# Altium schematic symbol library IC. Logic.SchLib: 14 symbols
Pins are listed as number, name and electrical type; pins without a type are passive.

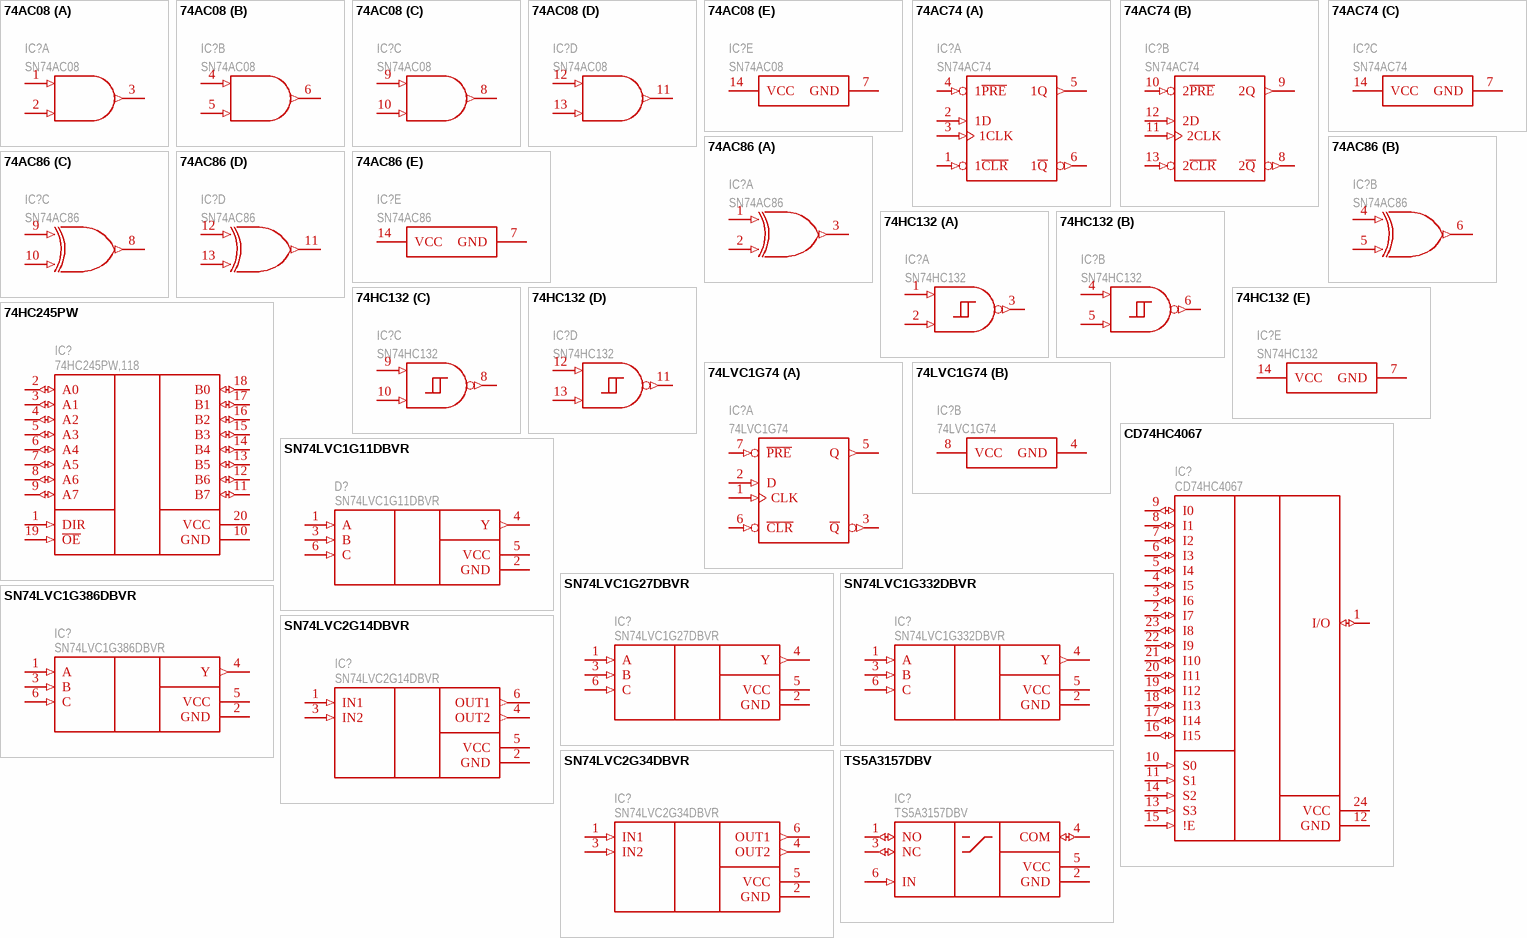
[diagram p0: symbols 74AC08 to TS5A3157DBV]

## 74AC08
designator IC?  PartNumber: SN74AC08
Quadruple 2-Input Positive-AND Gates; Manufacturer: Texas Instruments; ICC @ Nom Voltage(Max)(mA): 0.02; Rating: Catalog; Input Type: CMOS; Output Drive (IOL/IOH)(Max)(mA): -24/24; Technology Family: AC; Schmitt Trigger: No; Bits(#): 4; F @ Nom Voltage(Max)(Mhz): 100; tpd @ Nom Voltage(Max)(ns): 10,8.5; Supply: 2..6V; DatasheetVersion: SCAS536D; PackageReference: D0014A; Temperature: -40 to 85; Output Type: CMOS; ValueManufacturerPartNumber: =ComponentType+', '+Supply+', '+Temperature+', '+Package; ComponentType: IC logic buffer
footprint 14-SOIC (pitch 1.27 mm)
part A pins: 1 1A (in), 2 1B (in), 3 1Y (out)
part B pins: 4 2A (in), 5 2B (in), 6 2Y (out)
part C pins: 8 3Y (out), 9 3A (in), 10 3B (in)
part D pins: 11 4Y (out), 12 4A (in), 13 4B (in)
part E pins: 7 GND (power), 14 VCC (power)

## 74AC74
designator IC?  PartNumber: SN74AC74
Dual Positive-Edge-Triggered D-Type Flip-Flops With Clear and Preset; Manufacturer: Texas Instruments; VCC(Min)(V): 2; Rating: Catalog; VCC(Max)(V): 6; F @ Nom Voltage(Max)(Mhz): 100; Schmitt Trigger: No; Input Type: CMOS; Output: 3S; Technology Family: AC; Output Logic: Inverted,Non-inverted; tpd @ Nom Voltage(Max)(ns): 13.5,10.5; Output Drive (IOL/IOH)(Max)(mA): 24/-24; ICC @ Nom Voltage(Max)(mA): 0.02; Voltage(Nom)(V): 3.3,5; PackageReference: D0014A; Operating Temperature Range(C): -40 to 85; 3-State Output: No; Output Type: CMOS; DatasheetVersion: SCAS521F; Bits(#): 2; Code_JEDEC: MS-012
footprint 14-SOIC (pitch 1.27 mm)
part A pins: 1 1~{CLR} (in), 2 1D (in), 3 1CLK (in), 4 1~{PRE} (in), 5 1Q (out), 6 1~{Q} (out)
part B pins: 8 2~{Q} (out), 9 2Q (out), 10 2~{PRE} (in), 11 2CLK (in), 12 2D (in), 13 2~{CLR} (in)
part C pins: 7 GND (power), 14 VCC (power)

## 74AC86
designator IC?  PartNumber: SN74AC86
Quadruple 2-Input Exclusive-OR Gates; Manufacturer: Texas Instruments; Input Type: CMOS; ICC @ Nom Voltage(Max)(mA): 0.02; VCC(Max)(V): 5.5; tpd @ Nom Voltage(Max)(ns): 12.5,9; Rating: Catalog; Schmitt Trigger: No; VCC(Min)(V): 2; F @ Nom Voltage(Max)(Mhz): 100; Bits(#): 4; Voltage(Nom)(V): 3.3,5; Technology Family: AC; Output Drive (IOL/IOH)(Max)(mA): 24/-24; Operating Temperature Range(C): -40 to 85; Output Type: CMOS; DatasheetVersion: SCAS533C; PackageReference: D0014A
footprint 14-soic (pitch 1.27 mm)
part A pins: 1 1A (in), 2 1B (in), 3 1Y (out)
part B pins: 4 2A (in), 5 2B (in), 6 2Y (out)
part C pins: 8 3Y (out), 9 3A (in), 10 3B (in)
part D pins: 11 4Y (out), 12 4A (in), 13 4B (in)
part E pins: 7 GND (power), 14 VCC (power)

## 74HC132
designator IC?  PartNumber: SN74HC132
Quadruple Positive-NAND Gates With Schmitt-Trigger Inputs; Manufacturer: Texas Instruments; Bits(#): 4; VCC(Min)(V): 2; F @ Nom Voltage(Max)(Mhz): 70; Input Type: CMOS; ICC @ Nom Voltage(Max)(mA): 0.02; Rating: Catalog; Schmitt Trigger: Yes; Technology Family: HC; Output Drive (IOL/IOH)(Max)(mA): 5.2/-5.2; VCC(Max)(V): 6; tpd @ Nom Voltage(Max)(ns): 31; Voltage(Nom)(V): 5; Operating Temperature Range(C): -40 to 85; PackageReference: D0014A; Code_JEDEC: MS-012; DatasheetVersion: SCLS034F; Output Type: CMOS
footprint 14-soic (pitch 1.27 mm)
part A pins: 1 1A (in) "Gate 1 input", 2 1B (in) "Gate 1 input", 3 1Y (out) "Gate 1 output"
part B pins: 4 2A (in) "Gate 2 input", 5 2B (in) "Gate 2 input", 6 2Y (out) "Gate 2 output"
part C pins: 8 3Y (out) "Gate 3 output", 9 3A (in) "Gate 3 input", 10 3B (in) "Gate 3 input"
part D pins: 11 4Y (out) "Gate 4 output", 12 4A (in) "Gate 4 input", 13 4B (in) "Gate 4 input"
part E pins: 7 GND (power) "Ground Pin", 14 VCC (power) "Power Pin"

## 74HC245PW
designator IC?  PartNumber: 74HC245PW,118
Buffer; Manufacturer: Nexperia; ValueManufacturerPartNumber: IC logic buffer, 2...6V, -40...+125°C, 20-TSSOP; Supply: 2...6V; HelpURL: https://www.digikey.com/product-detail/en/nexperia-usa-inc/74HC245PW118/1727-4296-1-ND/2209913; Package: 20-TSSOP; ComponentType: IC logic buffer; Temperature: -40...+125°C
footprint 20-TSSOP (pitch 0.65 mm)
pins: 1 DIR (in), 2 A0 (io), 3 A1 (io), 4 A2 (io), 5 A3 (io), 6 A4 (io), 7 A5 (io), 8 A6 (io), 9 A7 (io), 10 GND, 11 B7 (io), 12 B6 (io), 13 B5 (io), 14 B4 (io), 15 B3 (io), 16 B2 (io), 17 B1 (io), 18 B0 (io), 19 ~{OE} (in), 20 VCC

## 74LVC1G74
designator IC?  PartNumber: 74LVC1G74
Positive-Edge-Triggered D-Type Flip-Flops With Clear and Preset
footprint 8-SSOP (3x3 mm, pitch 0.65 mm)
part A pins: 1 CLK (in), 2 D (in), 3 ~{Q} (out), 5 Q (out), 6 ~{CLR} (in), 7 ~{PRE} (in)
part B pins: 4 GND (power), 8 VCC (power)

## CD74HC4067
designator IC?  PartNumber: CD74HC4067
MUX; Manufacturer: Texas Instruments; ValueManufacturerPartNumber: IC logic inverter, 1.65...5.5V, -40...+125°C, SOT23-6; Supply: 1.65...5.5V; HelpURL: https://www.digikey.com/product-detail/en/texas-instruments/SN74LVC2G14DBVR/296-13010-1-ND/479730; Package: SOT23-6; ComponentType: IC logic inverter; Temperature: -40...+125°C
footprint 24-soic (SOIC, 24-Leads, Body 15,40x7,50mm, Pitch 1,27mm, IPC Medium Density)
pins: 1 I/O (io), 2 I7 (io), 3 I6 (io), 4 I5 (io), 5 I4 (io), 6 I3 (io), 7 I2 (io), 8 I1 (io), 9 I0 (io), 10 S0 (in), 11 S1 (in), 12 GND (power), 13 S3 (in), 14 S2 (in), 15 !E (in), 16 I15 (io), 17 I14 (io), 18 I13 (io), 19 I12 (io), 20 I11 (io), 21 I10 (io), 22 I9 (io), 23 I8 (io), 24 VCC (power)

## SN74LVC1G11DBVR
designator D?  PartNumber: SN74LVC1G11DBVR
AND; Manufacturer: Texas Instruments; ValueManufacturerPartNumber: IC logic AND, 1.65...5.5V, -40...+125°C, SOT23-6; Supply: 1.65...5.5V; HelpURL: https://www.digikey.com/product-detail/en/texas-instruments/SN74LVC1G11DBVR/296-16810-1-ND/637183; Package: SOT23-6; ComponentType: IC logic AND; Temperature: -40...+125°C
footprint SOT23-6 (pitch 0.95 mm)
pins: 1 A (in), 2 GND (power), 3 B (in), 4 Y (out), 5 VCC (power), 6 C (in)

## SN74LVC1G27DBVR
designator IC?  PartNumber: SN74LVC1G27DBVR
NOR; Manufacturer: Texas Instruments; ValueManufacturerPartNumber: IC logic NOR, 1.65...5.5V, -40...+125°C, SOT23-6; Supply: 1.65...5.5V; HelpURL: https://www.digikey.com/product-detail/en/texas-instruments/SN74LVC1G27DBVR/296-17119-2-ND/664036; Package: SOT23-6; ComponentType: IC logic NOR; Temperature: -40...+125°C
footprint SOT23-6 (pitch 0.95 mm)
pins: 1 A (in), 2 GND (power), 3 B (in), 4 Y (out), 5 VCC (power), 6 C (in)

## SN74LVC1G332DBVR
designator IC?  PartNumber: SN74LVC1G332DBVR
OR; Manufacturer: Texas Instruments; ValueManufacturerPartNumber: IC logic OR, 1.65...5.5V, -40...+125°C, SOT23-6; Supply: 1.65...5.5V; HelpURL: https://www.digikey.com/product-detail/en/texas-instruments/SN74LVC1G332DBVR/296-18587-1-ND/857355; Package: SOT23-6; ComponentType: IC logic OR; Temperature: -40...+125°C
footprint SOT23-6 (pitch 0.95 mm)
pins: 1 A (in), 2 GND (power), 3 B (in), 4 Y (out), 5 VCC (power), 6 C (in)

## SN74LVC1G386DBVR
designator IC?  PartNumber: SN74LVC1G386DBVR
XOR; Manufacturer: Texas Instruments; ValueManufacturerPartNumber: IC logic XOR, 1.65...5.5V, -40...+125°C, SOT23-6; Supply: 1.65...5.5V; HelpURL: https://www.digikey.com/product-detail/en/texas-instruments/SN74LVC1G386DBVR/296-18779-1-ND/863906; Package: SOT23-6; ComponentType: IC logic XOR; Temperature: -40...+125°C
footprint SOT23-6 (pitch 0.95 mm)
pins: 1 A (in), 2 GND (power), 3 B (in), 4 Y (out), 5 VCC (power), 6 C (in)

## SN74LVC2G14DBVR
designator IC?  PartNumber: SN74LVC2G14DBVR
Inverter; Manufacturer: Texas Instruments; ValueManufacturerPartNumber: IC logic inverter, 1.65...5.5V, -40...+125°C, SOT23-6; Supply: 1.65...5.5V; HelpURL: https://www.digikey.com/product-detail/en/texas-instruments/SN74LVC2G14DBVR/296-13010-1-ND/479730; Package: SOT23-6; ComponentType: IC logic inverter; Temperature: -40...+125°C
footprint SOT23-6 (pitch 0.95 mm)
pins: 1 IN1 (in), 2 GND (power), 3 IN2 (in), 4 OUT2 (out), 5 VCC (power), 6 OUT1 (out)

## SN74LVC2G34DBVR
designator IC?  PartNumber: SN74LVC2G34DBVR
Buffer; Manufacturer: Texas Instruments; ValueManufacturerPartNumber: IC logic buffer, 1.65...5.5V, -40...+125°C, SOT23-6; Supply: 1.65...5.5V; HelpURL: https://www.digikey.com/product-detail/en/on-semiconductor/NL27WZ17DFT2G/NL27WZ17DFT2GOSCT-ND/1139966; Package: SOT23-6; ComponentType: IC logic buffer; Temperature: -40...+125°C
footprint SOT23-6 (pitch 0.95 mm)
pins: 1 IN1 (in), 2 GND (power), 3 IN2 (in), 4 OUT2 (out), 5 VCC (power), 6 OUT1 (out)

## TS5A3157DBV
designator IC?  PartNumber: TS5A3157DBV
Analog Switch; Manufacturer: Texas Instruments; ValueManufacturerPartNumber: IC logic NOR, 1.65...5.5V, -40...+125°C, SOT23-6; Supply: 1.65...5.5V; HelpURL: https://www.digikey.com/product-detail/en/texas-instruments/SN74LVC1G27DBVR/296-17119-2-ND/664036; Package: SOT23-6; ComponentType: IC logic NOR; Temperature: -40...+125°C
footprint SOT23-6 (pitch 0.95 mm)
pins: 1 NO (io), 2 GND (power), 3 NC (io), 4 COM (io), 5 VCC (power), 6 IN (in)